# Altium schematic symbol library HEADER_4.SchLib: 1 symbol
Pins are listed as number, name and electrical type; pins without a type are passive.

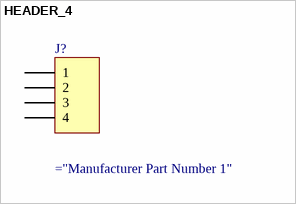
[diagram p0: symbol HEADER_4]

## HEADER_4
designator J?
Header, 4-Pin
pins: 1, 2, 3, 4